# EAGLE library part BLE113-A (library riley)
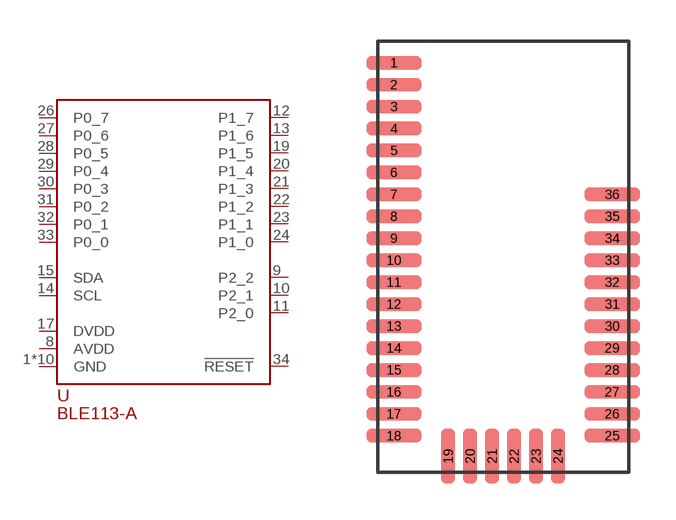
[diagram p1: symbol with the pads of BLE113-A; footprint BLE113-A]

Designator prefix -

## BLE113-A  [BLE113-A]
1  GND
2  GND
3  GND
4  GND
5  GND
6  GND
7  GND
8  AVDD
9  P2_2
10  P2_1
11  P2_0
12  P1_7
13  P1_6
14  SCL
15  SDA
17  DVDD
18  GND
19  P1_5
20  P1_4
21  P1_3
22  P1_2
23  P1_1
24  P1_0
25  GND
26  P0_7
27  P0_6
28  P0_5
29  P0_4
30  P0_3
31  P0_2
32  P0_1
33  P0_0
34  !RESET!
36  GND

## Footprint BLE113-A (pad centres in mm)
smd 2 x 0.5: 1 -3.975,7.075; 2 -3.975,6.275; 3 -3.975,5.475; 4 -3.975,4.675; 5 -3.975,3.875; 6 -3.975,3.075; 7 -3.975,2.275; 8 -3.975,1.475; 9 -3.975,0.675; 10 -3.975,-0.125; 11 -3.975,-0.925; 12 -3.975,-1.725; 13 -3.975,-2.525; 14 -3.975,-3.325; 15 -3.975,-4.125; 16 -3.975,-4.925; 17 -3.975,-5.725; 18 -3.975,-6.525; 25 3.975,-6.525; 26 3.975,-5.725; 27 3.975,-4.925; 28 3.975,-4.125; 29 3.975,-3.325; 30 3.975,-2.525; 31 3.975,-1.725; 32 3.975,-0.925; 33 3.975,-0.125; 34 3.975,0.675; 35 3.975,1.475; 36 3.975,2.275
smd 0.5 x 2: 19 -2,-7.265; 20 -1.2,-7.265; 21 -0.4,-7.265; 22 0.4,-7.265; 23 1.2,-7.265; 24 2,-7.265